# Altium integrated library ST Logic Counter.IntLib: 206 symbols (part 3 of 4)
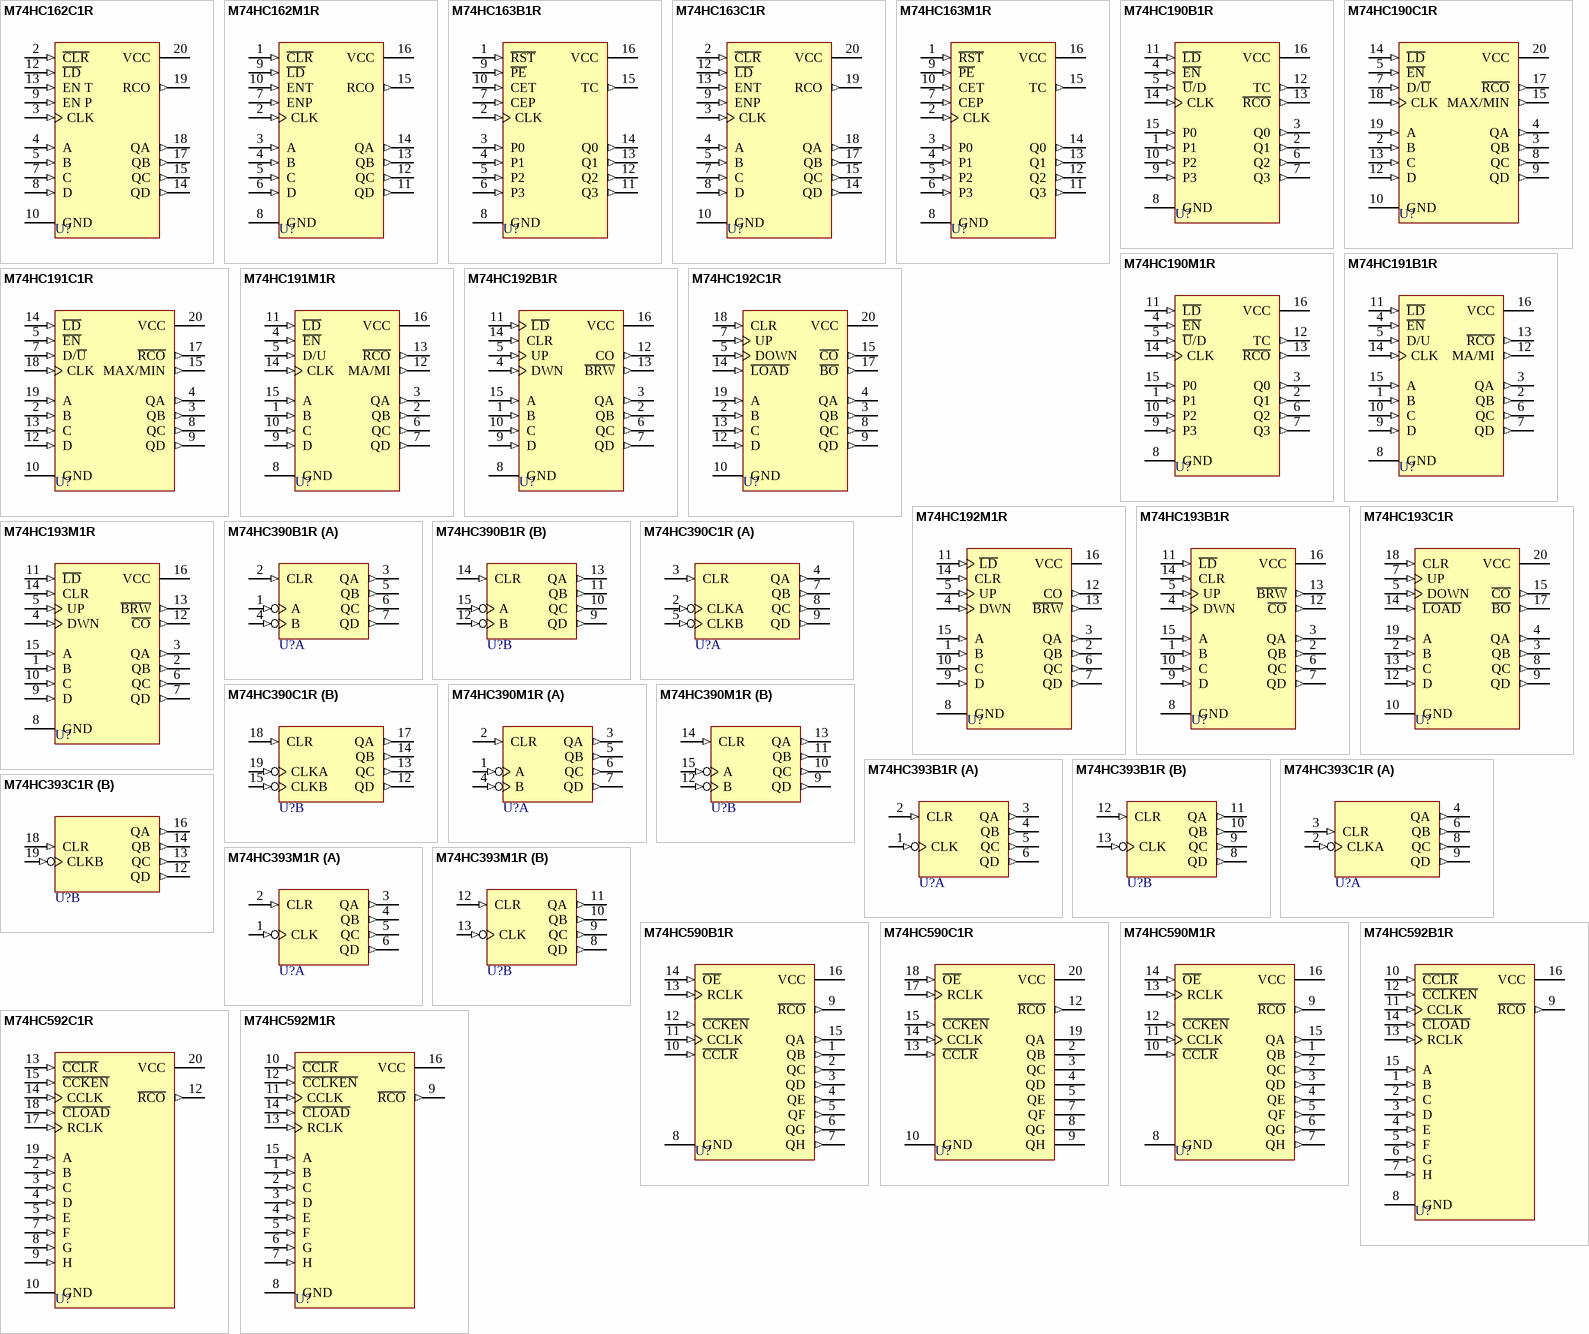
[diagram p8: symbols M74HC162C1R to M74HC592M1R]

## M74HC393M1R
designator U?
Dual Binary Counter; Published: 8-Jun-2000; LatestRevisionDate: 6-Jun-2005; LatestRevisionNote: Stylized 3D Model Added.; DatasheetDocument: Feb-1993; PackageDocument: Sep-1998; PackageReference: SO14; Publisher: Altium Limited; ComponentLink1Description: Manufacturer Link; ComponentLink1URL: http://www.st.com/; ComponentLink2Description: Datasheet; ComponentLink2URL: http://www.st.com/stonline/products/literature/ds/1956/m74hc393.pdf
footprint SO14 (Small Outline; 14 Leads; Body Width 3.9 mm; Pitch 1.27 mm)
3D model SO14 (Small Outline; 14 Leads; Body Width 3.9 mm; Pitch 1.27 mm)
signal-integrity model M74HC393M1R
pins on every part: 7 GND (power) hidden to GND, 14 VDD (power) hidden to VDD
part A pins: 1 CLK (in), 2 CLR (in), 3 QA (out), 4 QB (out), 5 QC (out), 6 QD (out)
part B pins: 8 QD (out), 9 QC (out), 10 QB (out), 11 QA (out), 12 CLR (in), 13 CLK (in)

## M74HC590B1R
designator U?
8-Bit Binary Counter Register (3-State); Published: 8-Jun-2000; LatestRevisionDate: 6-Jun-2005; LatestRevisionNote: Stylized 3D Model Added.; DatasheetDocument: Mar-1993; PackageDocument: Apr-1996; PackageReference: DIP16; Publisher: Altium Limited; ComponentLink1Description: Manufacturer Link; ComponentLink1URL: http://www.st.com/; ComponentLink2Description: Datasheet; ComponentLink2URL: http://www.st.com/stonline/products/literature/ds/1986/m74hc590.pdf
footprint DIP16 (DIP; 16 Leads; Row Spacing 7.62 mm; Pitch 2.54 mm)
3D model DIP16 (DIP; 16 Leads; Row Spacing 7.62 mm; Pitch 2.54 mm)
signal-integrity model M74HC590B1R
pins: 1 QB (out), 2 QC (out), 3 QD (out), 4 QE (out), 5 QF (out), 6 QG (out), 7 QH (out), 8 GND (power), 9 ~{RCO} (out), 10 ~{CCLR} (in), 11 CCLK (in), 12 ~{CCKEN} (in), 13 RCLK (in), 14 ~{OE} (in), 15 QA (out), 16 VCC (power)

## M74HC590C1R
designator U?
8-Bit Binary Counter Register (3-State); Note: Pins 1, 6, 11 and 16 are not connected and not drawn.; Published: 8-Jun-2000; LatestRevisionDate: 6-Jun-2005; LatestRevisionNote: Stylized 3D Model Added.; DatasheetDocument: Mar-1993; PackageDocument: Mar-1992; PackageReference: PLCC20; Publisher: Altium Limited; ComponentLink1Description: Manufacturer Link; ComponentLink1URL: http://www.st.com/
footprint PLCC20 (Leaded Chip Carrier; 20 Leads; Body 9 x 9 mm)
3D model M74HC590-PLCC20 (Leaded Chip Carrier; 20 Leads; Body 9 x 9 mm)
signal-integrity model M74HC590C1R
pins: 2 QB (hiz), 3 QC (hiz), 4 QD (hiz), 5 QE (hiz), 7 QF (hiz), 8 QG (hiz), 9 QH (hiz), 10 GND (power), 12 ~{RCO} (out), 13 ~{CCLR} (in), 14 CCLK (in), 15 ~{CCKEN} (in), 17 RCLK (in), 18 ~{OE} (in), 19 QA (hiz), 20 VCC (power)

## M74HC590M1R
designator U?
8-Bit Binary Counter Register (3-State); Published: 8-Jun-2000; LatestRevisionDate: 6-Jun-2005; LatestRevisionNote: Stylized 3D Model Added.; DatasheetDocument: Mar-1993; PackageDocument: May-1998; PackageReference: SO16; Publisher: Altium Limited; ComponentLink1Description: Manufacturer Link; ComponentLink1URL: http://www.st.com/; ComponentLink2Description: Datasheet; ComponentLink2URL: http://www.st.com/stonline/products/literature/ds/1986/m74hc590.pdf
footprint SO16 (Small Outline; 16 Leads; Body Width 3.9 mm; Pitch 1.27 mm)
3D model SO16 (Small Outline; 16 Leads; Body Width 3.9 mm; Pitch 1.27 mm)
signal-integrity model M74HC590M1R
pins: 1 QB (out), 2 QC (out), 3 QD (out), 4 QE (out), 5 QF (out), 6 QG (out), 7 QH (out), 8 GND (power), 9 ~{RCO} (out), 10 ~{CCLR} (in), 11 CCLK (in), 12 ~{CCKEN} (in), 13 RCLK (in), 14 ~{OE} (in), 15 QA (out), 16 VCC (power)

## M74HC592B1R
designator U?
8-Bit Register Binary Counter; Published: 8-Jun-2000; LatestRevisionDate: 6-Jun-2005; LatestRevisionNote: Stylized 3D Model Added.; DatasheetDocument: Oct-1993; PackageDocument: Apr-1996; PackageReference: DIP16; Publisher: Altium Limited; ComponentLink1Description: Manufacturer Link; ComponentLink1URL: http://www.st.com/; ComponentLink2Description: Datasheet; ComponentLink2URL: http://www.st.com/stonline/products/literature/ds/1987/m74hc592.pdf
footprint DIP16 (DIP; 16 Leads; Row Spacing 7.62 mm; Pitch 2.54 mm)
3D model DIP16 (DIP; 16 Leads; Row Spacing 7.62 mm; Pitch 2.54 mm)
signal-integrity model M74HC592B1R
pins: 1 B (in), 2 C (in), 3 D (in), 4 E (in), 5 F (in), 6 G (in), 7 H (in), 8 GND (power), 9 ~{RCO} (out), 10 ~{CCLR} (in), 11 CCLK (in), 12 ~{CCLKEN} (in), 13 RCLK (in), 14 ~{CLOAD} (in), 15 A (in), 16 VCC (power)

## M74HC592C1R
designator U?
8-Bit Register Binary Counter; Note: Pins 1, 6, 11 and 16 are not connected and not drawn.; Published: 8-Jun-2000; LatestRevisionDate: 6-Jun-2005; LatestRevisionNote: Stylized 3D Model Added.; DatasheetDocument: Oct-1993; PackageDocument: Mar-1992; PackageReference: PLCC20; Publisher: Altium Limited; ComponentLink1Description: Manufacturer Link; ComponentLink1URL: http://www.st.com/
footprint PLCC20 (Leaded Chip Carrier; 20 Leads; Body 9 x 9 mm)
3D model M74HC592-PLCC20 (Leaded Chip Carrier; 20 Leads; Body 9 x 9 mm)
signal-integrity model M74HC592C1R
pins: 2 B (in), 3 C (in), 4 D (in), 5 E (in), 7 F (in), 8 G (in), 9 H (in), 10 GND (power), 12 ~{RCO} (out), 13 ~{CCLR} (in), 14 CCLK (in), 15 ~{CCKEN} (in), 17 RCLK (in), 18 ~{CLOAD} (in), 19 A (in), 20 VCC (power)

## M74HC592M1R
designator U?
8-Bit Register Binary Counter; Published: 8-Jun-2000; LatestRevisionDate: 6-Jun-2005; LatestRevisionNote: Stylized 3D Model Added.; DatasheetDocument: Oct-1993; PackageDocument: May-1998; PackageReference: SO16; Publisher: Altium Limited; ComponentLink1Description: Manufacturer Link; ComponentLink1URL: http://www.st.com/; ComponentLink2Description: Datasheet; ComponentLink2URL: http://www.st.com/stonline/products/literature/ds/1987/m74hc592.pdf
footprint SO16 (Small Outline; 16 Leads; Body Width 3.9 mm; Pitch 1.27 mm)
3D model SO16 (Small Outline; 16 Leads; Body Width 3.9 mm; Pitch 1.27 mm)
signal-integrity model M74HC592M1R
pins: 1 B (in), 2 C (in), 3 D (in), 4 E (in), 5 F (in), 6 G (in), 7 H (in), 8 GND (power), 9 ~{RCO} (out), 10 ~{CCLR} (in), 11 CCLK (in), 12 ~{CCLKEN} (in), 13 RCLK (in), 14 ~{CLOAD} (in), 15 A (in), 16 VCC (power)

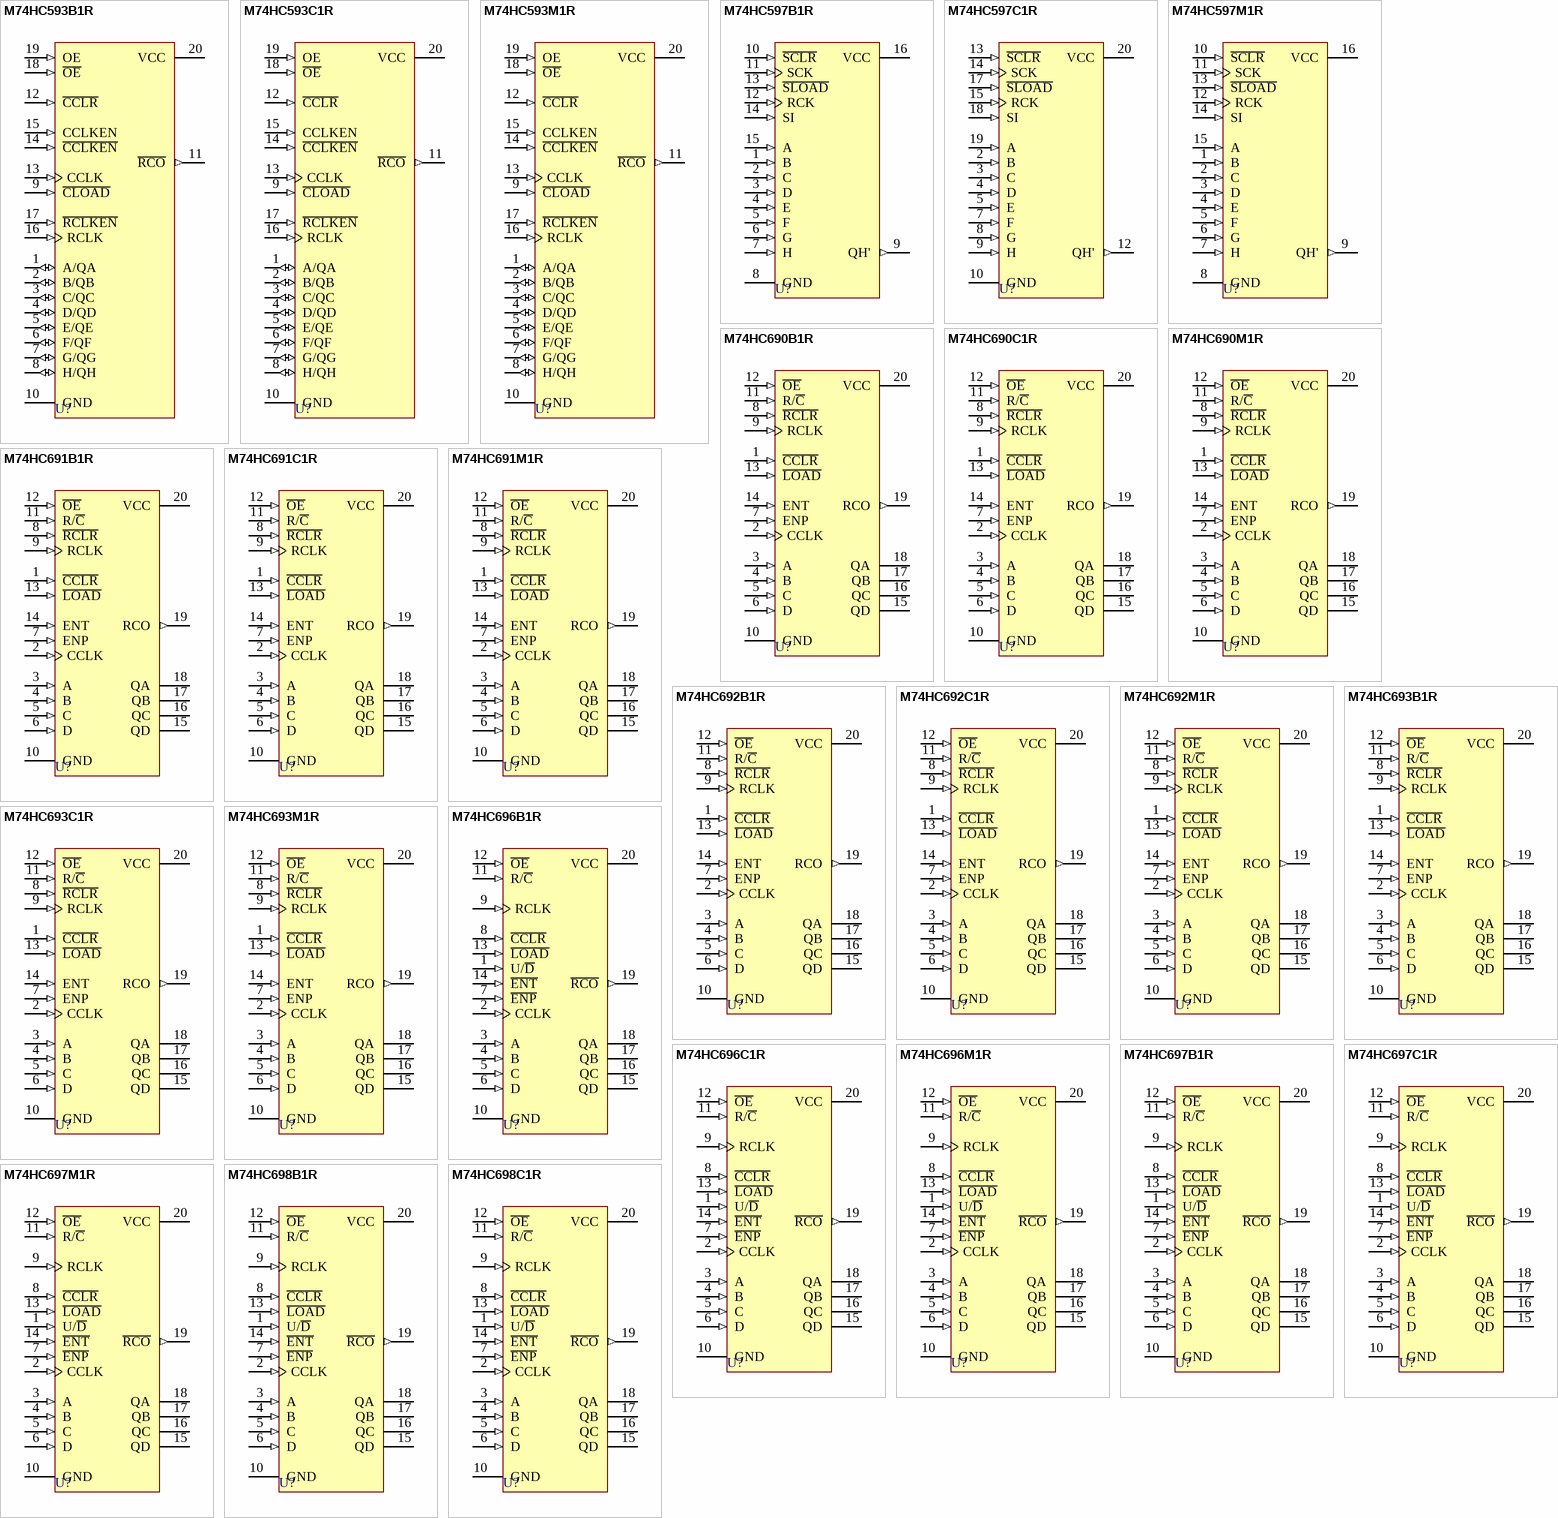
[diagram p4: symbols M74HC593B1R to M74HC698C1R]

## M74HC593B1R
designator U?
8-Bit Binary Counter with Input Register (3-State); Published: 8-Jun-2000; LatestRevisionDate: 6-Jun-2005; LatestRevisionNote: Stylized 3D Model Added.; DatasheetDocument: Oct-1993; PackageDocument: Jun-1998; PackageReference: DIP20; Publisher: Altium Limited; Code_JEDEC: MS-015-AE; ComponentLink1Description: Manufacturer Link; ComponentLink1URL: http://www.st.com/
footprint DIP20 (DIP; 20 Leads; Row Spacing 7.62 mm; Pitch 2.54 mm)
3D model DIP20 (DIP; 20 Leads; Row Spacing 7.62 mm; Pitch 2.54 mm)
signal-integrity model M74HC593B1R
pins: 1 A/QA (io), 2 B/QB (io), 3 C/QC (io), 4 D/QD (io), 5 E/QE (io), 6 F/QF (io), 7 G/QG (io), 8 H/QH (io), 9 ~{CLOAD} (in), 10 GND (power), 11 ~{RCO} (out), 12 ~{CCLR} (in), 13 CCLK (in), 14 ~{CCLKEN} (in), 15 CCLKEN (in), 16 RCLK (in), 17 ~{RCLKEN} (in), 18 ~{OE} (in), 19 OE (in), 20 VCC (power)

## M74HC593C1R
designator U?
8-Bit Binary Counter with Input Register (3-State); Published: 8-Jun-2000; LatestRevisionDate: 6-Jun-2005; LatestRevisionNote: Stylized 3D Model Added.; DatasheetDocument: Oct-1993; PackageDocument: Mar-1992; PackageReference: PLCC20; Publisher: Altium Limited; ComponentLink1Description: Manufacturer Link; ComponentLink1URL: http://www.st.com/
footprint PLCC20 (Leaded Chip Carrier; 20 Leads; Body 9 x 9 mm)
3D model M74HC593-PLCC20 (Leaded Chip Carrier; 20 Leads; Body 9 x 9 mm)
signal-integrity model M74HC593C1R
pins: 1 A/QA (io), 2 B/QB (io), 3 C/QC (io), 4 D/QD (io), 5 E/QE (io), 6 F/QF (io), 7 G/QG (io), 8 H/QH (io), 9 ~{CLOAD} (in), 10 GND (power), 11 ~{RCO} (out), 12 ~{CCLR} (in), 13 CCLK (in), 14 ~{CCLKEN} (in), 15 CCLKEN (in), 16 RCLK (in), 17 ~{RCLKEN} (in), 18 ~{OE} (in), 19 OE (in), 20 VCC (power)

## M74HC593M1R
designator U?
8-Bit Binary Counter with Input Register (3-State); Published: 8-Jun-2000; LatestRevisionDate: 6-Jun-2005; LatestRevisionNote: Stylized 3D Model Added.; DatasheetDocument: Oct-1993; PackageDocument: Jul-2001; PackageReference: SO20; Publisher: Altium Limited; Code_JEDEC: MS-013-AC; Code_IPC: SO20W; ComponentLink1Description: Manufacturer Link; ComponentLink1URL: http://www.st.com/
footprint SO20 (Small Outline, Plastic; 20 Leads; Body Width 7.5 mm; Pitch 1.27 mm)
3D model SO20 (Small Outline, Plastic; 20 Leads; Body Width 7.5 mm; Pitch 1.27 mm)
signal-integrity model M74HC593M1R
pins: 1 A/QA (io), 2 B/QB (io), 3 C/QC (io), 4 D/QD (io), 5 E/QE (io), 6 F/QF (io), 7 G/QG (io), 8 H/QH (io), 9 ~{CLOAD} (in), 10 GND (power), 11 ~{RCO} (out), 12 ~{CCLR} (in), 13 CCLK (in), 14 ~{CCLKEN} (in), 15 CCLKEN (in), 16 RCLK (in), 17 ~{RCLKEN} (in), 18 ~{OE} (in), 19 OE (in), 20 VCC (power)

## M74HC597B1R
designator U?
8-Bit Latch/Shift Register; Published: 8-Jun-2000; LatestRevisionDate: 6-Jun-2005; LatestRevisionNote: Stylized 3D Model Added.; DatasheetDocument: Oct-1992; PackageDocument: Apr-1996; PackageReference: DIP16; Publisher: Altium Limited; ComponentLink1Description: Manufacturer Link; ComponentLink1URL: http://www.st.com/; ComponentLink2Description: Datasheet; ComponentLink2URL: http://www.st.com/stonline/products/literature/ds/1990/m74hc597.pdf
footprint DIP16 (DIP; 16 Leads; Row Spacing 7.62 mm; Pitch 2.54 mm)
3D model DIP16 (DIP; 16 Leads; Row Spacing 7.62 mm; Pitch 2.54 mm)
signal-integrity model M74HC597B1R
pins: 1 B (in), 2 C (in), 3 D (in), 4 E (in), 5 F (in), 6 G (in), 7 H (in), 8 GND (power), 9 QH' (out), 10 ~{SCLR} (in), 11 SCK (in), 12 RCK (in), 13 ~{SLOAD} (in), 14 SI (in), 15 A (in), 16 VCC (power)

## M74HC597C1R
designator U?
8-Bit Latch/Shift Register; Note: Pins 1, 6, 11 and 16 are not connected and not drawn.; Published: 8-Jun-2000; LatestRevisionDate: 6-Jun-2005; LatestRevisionNote: Stylized 3D Model Added.; DatasheetDocument: Oct-1992; PackageDocument: Mar-1992; PackageReference: PLCC20; Publisher: Altium Limited; ComponentLink1Description: Manufacturer Link; ComponentLink1URL: http://www.st.com/
footprint PLCC20 (Leaded Chip Carrier; 20 Leads; Body 9 x 9 mm)
3D model M74HC597-PLCC20 (Leaded Chip Carrier; 20 Leads; Body 9 x 9 mm)
signal-integrity model M74HC597C1R
pins: 2 B (in), 3 C (in), 4 D (in), 5 E (in), 7 F (in), 8 G (in), 9 H (in), 10 GND (power), 12 QH' (out), 13 ~{SCLR} (in), 14 SCK (in), 15 RCK (in), 17 ~{SLOAD} (in), 18 SI (in), 19 A (in), 20 VCC (power)

## M74HC597M1R
designator U?
8-Bit Latch/Shift Register; Published: 8-Jun-2000; LatestRevisionDate: 6-Jun-2005; LatestRevisionNote: Stylized 3D Model Added.; DatasheetDocument: Oct-1992; PackageDocument: May-1998; PackageReference: SO16; Publisher: Altium Limited; ComponentLink1Description: Manufacturer Link; ComponentLink1URL: http://www.st.com/; ComponentLink2Description: Datasheet; ComponentLink2URL: http://www.st.com/stonline/products/literature/ds/1990/m74hc597.pdf
footprint SO16 (Small Outline; 16 Leads; Body Width 3.9 mm; Pitch 1.27 mm)
3D model SO16 (Small Outline; 16 Leads; Body Width 3.9 mm; Pitch 1.27 mm)
signal-integrity model M74HC597M1R
pins: 1 B (in), 2 C (in), 3 D (in), 4 E (in), 5 F (in), 6 G (in), 7 H (in), 8 GND (power), 9 QH' (out), 10 ~{SCLR} (in), 11 SCK (in), 12 RCK (in), 13 ~{SLOAD} (in), 14 SI (in), 15 A (in), 16 VCC (power)

## M74HC690B1R
designator U?
Decade Counter/Register (3-State); Published: 8-Jun-2000; LatestRevisionDate: 6-Jun-2005; LatestRevisionNote: Stylized 3D Model Added.; DatasheetDocument: Mar-1993; PackageDocument: Jun-1998; PackageReference: DIP20; Publisher: Altium Limited; Code_JEDEC: MS-015-AE; ComponentLink1Description: Manufacturer Link; ComponentLink1URL: http://www.st.com/
footprint DIP20 (DIP; 20 Leads; Row Spacing 7.62 mm; Pitch 2.54 mm)
3D model DIP20 (DIP; 20 Leads; Row Spacing 7.62 mm; Pitch 2.54 mm)
signal-integrity model M74HC690B1R
pins: 1 ~{CCLR} (in), 2 CCLK (in), 3 A (in), 4 B (in), 5 C (in), 6 D (in), 7 ENP (in), 8 ~{RCLR} (in), 9 RCLK (in), 10 GND (power), 11 R/~{C} (in), 12 ~{OE} (in), 13 ~{LOAD} (in), 14 ENT (in), 15 QD (hiz), 16 QC (hiz), 17 QB (hiz), 18 QA (hiz), 19 RCO (out), 20 VCC (power)

## M74HC690C1R
designator U?
Decade Counter/Register (3-State); Published: 8-Jun-2000; LatestRevisionDate: 6-Jun-2005; LatestRevisionNote: Stylized 3D Model Added.; DatasheetDocument: Mar-1993; PackageDocument: Mar-1992; PackageReference: PLCC20; Publisher: Altium Limited; ComponentLink1Description: Manufacturer Link; ComponentLink1URL: http://www.st.com/
footprint PLCC20 (Leaded Chip Carrier; 20 Leads; Body 9 x 9 mm)
3D model M74HC690-PLCC20 (Leaded Chip Carrier; 20 Leads; Body 9 x 9 mm)
signal-integrity model M74HC690C1R
pins: 1 ~{CCLR} (in), 2 CCLK (in), 3 A (in), 4 B (in), 5 C (in), 6 D (in), 7 ENP (in), 8 ~{RCLR} (in), 9 RCLK (in), 10 GND (power), 11 R/~{C} (in), 12 ~{OE} (in), 13 ~{LOAD} (in), 14 ENT (in), 15 QD (hiz), 16 QC (hiz), 17 QB (hiz), 18 QA (hiz), 19 RCO (out), 20 VCC (power)

## M74HC690M1R
designator U?
Decade Binary Counter/Register (3-State); Published: 8-Jun-2000; LatestRevisionDate: 6-Jun-2005; LatestRevisionNote: Stylized 3D Model Added.; DatasheetDocument: Mar-1993; PackageDocument: Jul-2001; PackageReference: SO20; Publisher: Altium Limited; Code_JEDEC: MS-013-AC; Code_IPC: SO20W; ComponentLink1Description: Manufacturer Link; ComponentLink1URL: http://www.st.com/
footprint SO20 (Small Outline, Plastic; 20 Leads; Body Width 7.5 mm; Pitch 1.27 mm)
3D model SO20 (Small Outline, Plastic; 20 Leads; Body Width 7.5 mm; Pitch 1.27 mm)
signal-integrity model M74HC690M1R
pins: 1 ~{CCLR} (in), 2 CCLK (in), 3 A (in), 4 B (in), 5 C (in), 6 D (in), 7 ENP (in), 8 ~{RCLR} (in), 9 RCLK (in), 10 GND (power), 11 R/~{C} (in), 12 ~{OE} (in), 13 ~{LOAD} (in), 14 ENT (in), 15 QD (hiz), 16 QC (hiz), 17 QB (hiz), 18 QA (hiz), 19 RCO (out), 20 VCC (power)

## M74HC691B1R
designator U?
4-Bit Binary Counter/Register (3-State); Published: 8-Jun-2000; LatestRevisionDate: 6-Jun-2005; LatestRevisionNote: Stylized 3D Model Added.; DatasheetDocument: Mar-1993; PackageDocument: Jun-1998; PackageReference: DIP20; Publisher: Altium Limited; Code_JEDEC: MS-015-AE; ComponentLink1Description: Manufacturer Link; ComponentLink1URL: http://www.st.com/
footprint DIP20 (DIP; 20 Leads; Row Spacing 7.62 mm; Pitch 2.54 mm)
3D model DIP20 (DIP; 20 Leads; Row Spacing 7.62 mm; Pitch 2.54 mm)
signal-integrity model M74HC691B1R
pins: 1 ~{CCLR} (in), 2 CCLK (in), 3 A (in), 4 B (in), 5 C (in), 6 D (in), 7 ENP (in), 8 ~{RCLR} (in), 9 RCLK (in), 10 GND (power), 11 R/~{C} (in), 12 ~{OE} (in), 13 ~{LOAD} (in), 14 ENT (in), 15 QD (hiz), 16 QC (hiz), 17 QB (hiz), 18 QA (hiz), 19 RCO (out), 20 VCC (power)

## M74HC691C1R
designator U?
4-Bit Binary Counter/Register (3-State); Published: 8-Jun-2000; LatestRevisionDate: 6-Jun-2005; LatestRevisionNote: Stylized 3D Model Added.; DatasheetDocument: Mar-1993; PackageDocument: Mar-1992; PackageReference: PLCC20; Publisher: Altium Limited; ComponentLink1Description: Manufacturer Link; ComponentLink1URL: http://www.st.com/
footprint PLCC20 (Leaded Chip Carrier; 20 Leads; Body 9 x 9 mm)
3D model M74HC691-PLCC20 (Leaded Chip Carrier; 20 Leads; Body 9 x 9 mm)
signal-integrity model M74HC691C1R
pins: 1 ~{CCLR} (in), 2 CCLK (in), 3 A (in), 4 B (in), 5 C (in), 6 D (in), 7 ENP (in), 8 ~{RCLR} (in), 9 RCLK (in), 10 GND (power), 11 R/~{C} (in), 12 ~{OE} (in), 13 ~{LOAD} (in), 14 ENT (in), 15 QD (hiz), 16 QC (hiz), 17 QB (hiz), 18 QA (hiz), 19 RCO (out), 20 VCC (power)

## M74HC691M1R
designator U?
4-Bit Binary Counter/Register (3-State); Published: 8-Jun-2000; LatestRevisionDate: 6-Jun-2005; LatestRevisionNote: Stylized 3D Model Added.; DatasheetDocument: Mar-1993; PackageDocument: Jul-2001; PackageReference: SO20; Publisher: Altium Limited; Code_JEDEC: MS-013-AC; Code_IPC: SO20W; ComponentLink1Description: Manufacturer Link; ComponentLink1URL: http://www.st.com/
footprint SO20 (Small Outline, Plastic; 20 Leads; Body Width 7.5 mm; Pitch 1.27 mm)
3D model SO20 (Small Outline, Plastic; 20 Leads; Body Width 7.5 mm; Pitch 1.27 mm)
signal-integrity model M74HC691M1R
pins: 1 ~{CCLR} (in), 2 CCLK (in), 3 A (in), 4 B (in), 5 C (in), 6 D (in), 7 ENP (in), 8 ~{RCLR} (in), 9 RCLK (in), 10 GND (power), 11 R/~{C} (in), 12 ~{OE} (in), 13 ~{LOAD} (in), 14 ENT (in), 15 QD (hiz), 16 QC (hiz), 17 QB (hiz), 18 QA (hiz), 19 RCO (out), 20 VCC (power)

## M74HC692B1R
designator U?
Decade Counter/Register (3-State); Published: 8-Jun-2000; LatestRevisionDate: 6-Jun-2005; LatestRevisionNote: Stylized 3D Model Added.; DatasheetDocument: Mar-1993; PackageDocument: Jun-1998; PackageReference: DIP20; Publisher: Altium Limited; Code_JEDEC: MS-015-AE; ComponentLink1Description: Manufacturer Link; ComponentLink1URL: http://www.st.com/
footprint DIP20 (DIP; 20 Leads; Row Spacing 7.62 mm; Pitch 2.54 mm)
3D model DIP20 (DIP; 20 Leads; Row Spacing 7.62 mm; Pitch 2.54 mm)
signal-integrity model M74HC692B1R
pins: 1 ~{CCLR} (in), 2 CCLK (in), 3 A (in), 4 B (in), 5 C (in), 6 D (in), 7 ENP (in), 8 ~{RCLR} (in), 9 RCLK (in), 10 GND (power), 11 R/~{C} (in), 12 ~{OE} (in), 13 ~{LOAD} (in), 14 ENT (in), 15 QD (hiz), 16 QC (hiz), 17 QB (hiz), 18 QA (hiz), 19 RCO (out), 20 VCC (power)

## M74HC692C1R
designator U?
Decade Counter/Register (3-State); Published: 8-Jun-2000; LatestRevisionDate: 6-Jun-2005; LatestRevisionNote: Stylized 3D Model Added.; DatasheetDocument: Mar-1993; PackageDocument: Mar-1992; PackageReference: PLCC20; Publisher: Altium Limited; ComponentLink1Description: Manufacturer Link; ComponentLink1URL: http://www.st.com/
footprint PLCC20 (Leaded Chip Carrier; 20 Leads; Body 9 x 9 mm)
3D model M74HC692-PLCC20 (Leaded Chip Carrier; 20 Leads; Body 9 x 9 mm)
signal-integrity model M74HC692C1R
pins: 1 ~{CCLR} (in), 2 CCLK (in), 3 A (in), 4 B (in), 5 C (in), 6 D (in), 7 ENP (in), 8 ~{RCLR} (in), 9 RCLK (in), 10 GND (power), 11 R/~{C} (in), 12 ~{OE} (in), 13 ~{LOAD} (in), 14 ENT (in), 15 QD (hiz), 16 QC (hiz), 17 QB (hiz), 18 QA (hiz), 19 RCO (out), 20 VCC (power)

## M74HC692M1R
designator U?
Decade Binary Counter/Register (3-State); Published: 8-Jun-2000; LatestRevisionDate: 6-Jun-2005; LatestRevisionNote: Stylized 3D Model Added.; DatasheetDocument: Mar-1993; PackageDocument: Jul-2001; PackageReference: SO20; Publisher: Altium Limited; Code_JEDEC: MS-013-AC; Code_IPC: SO20W; ComponentLink1Description: Manufacturer Link; ComponentLink1URL: http://www.st.com/
footprint SO20 (Small Outline, Plastic; 20 Leads; Body Width 7.5 mm; Pitch 1.27 mm)
3D model SO20 (Small Outline, Plastic; 20 Leads; Body Width 7.5 mm; Pitch 1.27 mm)
signal-integrity model M74HC692M1R
pins: 1 ~{CCLR} (in), 2 CCLK (in), 3 A (in), 4 B (in), 5 C (in), 6 D (in), 7 ENP (in), 8 ~{RCLR} (in), 9 RCLK (in), 10 GND (power), 11 R/~{C} (in), 12 ~{OE} (in), 13 ~{LOAD} (in), 14 ENT (in), 15 QD (hiz), 16 QC (hiz), 17 QB (hiz), 18 QA (hiz), 19 RCO (out), 20 VCC (power)

## M74HC693B1R
designator U?
4-Bit Binary Counter/Register (3-State); Published: 8-Jun-2000; LatestRevisionDate: 6-Jun-2005; LatestRevisionNote: Stylized 3D Model Added.; DatasheetDocument: Mar-1993; PackageDocument: Jun-1998; PackageReference: DIP20; Publisher: Altium Limited; Code_JEDEC: MS-015-AE; ComponentLink1Description: Manufacturer Link; ComponentLink1URL: http://www.st.com/
footprint DIP20 (DIP; 20 Leads; Row Spacing 7.62 mm; Pitch 2.54 mm)
3D model DIP20 (DIP; 20 Leads; Row Spacing 7.62 mm; Pitch 2.54 mm)
signal-integrity model M74HC693B1R
pins: 1 ~{CCLR} (in), 2 CCLK (in), 3 A (in), 4 B (in), 5 C (in), 6 D (in), 7 ENP (in), 8 ~{RCLR} (in), 9 RCLK (in), 10 GND (power), 11 R/~{C} (in), 12 ~{OE} (in), 13 ~{LOAD} (in), 14 ENT (in), 15 QD (hiz), 16 QC (hiz), 17 QB (hiz), 18 QA (hiz), 19 RCO (out), 20 VCC (power)

## M74HC693C1R
designator U?
4-Bit Binary Counter/Register (3-State); Published: 8-Jun-2000; LatestRevisionDate: 6-Jun-2005; LatestRevisionNote: Stylized 3D Model Added.; DatasheetDocument: Mar-1993; PackageDocument: Mar-1992; PackageReference: PLCC20; Publisher: Altium Limited; ComponentLink1Description: Manufacturer Link; ComponentLink1URL: http://www.st.com/
footprint PLCC20 (Leaded Chip Carrier; 20 Leads; Body 9 x 9 mm)
3D model M74HC693-PLCC20 (Leaded Chip Carrier; 20 Leads; Body 9 x 9 mm)
signal-integrity model M74HC693C1R
pins: 1 ~{CCLR} (in), 2 CCLK (in), 3 A (in), 4 B (in), 5 C (in), 6 D (in), 7 ENP (in), 8 ~{RCLR} (in), 9 RCLK (in), 10 GND (power), 11 R/~{C} (in), 12 ~{OE} (in), 13 ~{LOAD} (in), 14 ENT (in), 15 QD (hiz), 16 QC (hiz), 17 QB (hiz), 18 QA (hiz), 19 RCO (out), 20 VCC (power)

## M74HC693M1R
designator U?
4-Bit Binary Counter/Register (3-State); Published: 8-Jun-2000; LatestRevisionDate: 6-Jun-2005; LatestRevisionNote: Stylized 3D Model Added.; DatasheetDocument: Mar-1993; PackageDocument: Jul-2001; PackageReference: SO20; Publisher: Altium Limited; Code_JEDEC: MS-013-AC; Code_IPC: SO20W; ComponentLink1Description: Manufacturer Link; ComponentLink1URL: http://www.st.com/
footprint SO20 (Small Outline, Plastic; 20 Leads; Body Width 7.5 mm; Pitch 1.27 mm)
3D model SO20 (Small Outline, Plastic; 20 Leads; Body Width 7.5 mm; Pitch 1.27 mm)
signal-integrity model M74HC693M1R
pins: 1 ~{CCLR} (in), 2 CCLK (in), 3 A (in), 4 B (in), 5 C (in), 6 D (in), 7 ENP (in), 8 ~{RCLR} (in), 9 RCLK (in), 10 GND (power), 11 R/~{C} (in), 12 ~{OE} (in), 13 ~{LOAD} (in), 14 ENT (in), 15 QD (hiz), 16 QC (hiz), 17 QB (hiz), 18 QA (hiz), 19 RCO (out), 20 VCC (power)

## M74HC696B1R
designator U?
U/D Decade Counter/Register (3-State); Published: 8-Jun-2000; LatestRevisionDate: 6-Jun-2005; LatestRevisionNote: Stylized 3D Model Added.; DatasheetDocument: Mar-1993; PackageDocument: Jun-1998; PackageReference: DIP20; Publisher: Altium Limited; Code_JEDEC: MS-015-AE; ComponentLink1Description: Manufacturer Link; ComponentLink1URL: http://www.st.com/
footprint DIP20 (DIP; 20 Leads; Row Spacing 7.62 mm; Pitch 2.54 mm)
3D model DIP20 (DIP; 20 Leads; Row Spacing 7.62 mm; Pitch 2.54 mm)
signal-integrity model M74HC696B1R
pins: 1 U/~{D} (in), 2 CCLK (in), 3 A (in), 4 B (in), 5 C (in), 6 D (in), 7 ~{ENP} (in), 8 ~{CCLR} (in), 9 RCLK (in), 10 GND (power), 11 R/~{C} (in), 12 ~{OE} (in), 13 ~{LOAD} (in), 14 ~{ENT} (in), 15 QD (hiz), 16 QC (hiz), 17 QB (hiz), 18 QA (hiz), 19 ~{RCO} (out), 20 VCC (power)

## M74HC696C1R
designator U?
U/D Decade Counter/Register (3-State); Published: 8-Jun-2000; LatestRevisionDate: 6-Jun-2005; LatestRevisionNote: Stylized 3D Model Added.; DatasheetDocument: Mar-1993; PackageDocument: Mar-1992; PackageReference: PLCC20; Publisher: Altium Limited; ComponentLink1Description: Manufacturer Link; ComponentLink1URL: http://www.st.com/
footprint PLCC20 (Leaded Chip Carrier; 20 Leads; Body 9 x 9 mm)
3D model M74HC696-PLCC20 (Leaded Chip Carrier; 20 Leads; Body 9 x 9 mm)
signal-integrity model M74HC696C1R
pins: 1 U/~{D} (in), 2 CCLK (in), 3 A (in), 4 B (in), 5 C (in), 6 D (in), 7 ~{ENP} (in), 8 ~{CCLR} (in), 9 RCLK (in), 10 GND (power), 11 R/~{C} (in), 12 ~{OE} (in), 13 ~{LOAD} (in), 14 ~{ENT} (in), 15 QD (hiz), 16 QC (hiz), 17 QB (hiz), 18 QA (hiz), 19 ~{RCO} (out), 20 VCC (power)

## M74HC696M1R
designator U?
U/D Decade Counter/Register (3-State); Published: 8-Jun-2000; LatestRevisionDate: 6-Jun-2005; LatestRevisionNote: Stylized 3D Model Added.; DatasheetDocument: Mar-1993; PackageDocument: Jul-2001; PackageReference: SO20; Publisher: Altium Limited; Code_JEDEC: MS-013-AC; Code_IPC: SO20W; ComponentLink1Description: Manufacturer Link; ComponentLink1URL: http://www.st.com/
footprint SO20 (Small Outline, Plastic; 20 Leads; Body Width 7.5 mm; Pitch 1.27 mm)
3D model SO20 (Small Outline, Plastic; 20 Leads; Body Width 7.5 mm; Pitch 1.27 mm)
signal-integrity model M74HC696M1R
pins: 1 U/~{D} (in), 2 CCLK (in), 3 A (in), 4 B (in), 5 C (in), 6 D (in), 7 ~{ENP} (in), 8 ~{CCLR} (in), 9 RCLK (in), 10 GND (power), 11 R/~{C} (in), 12 ~{OE} (in), 13 ~{LOAD} (in), 14 ~{ENT} (in), 15 QD (hiz), 16 QC (hiz), 17 QB (hiz), 18 QA (hiz), 19 ~{RCO} (out), 20 VCC (power)

## M74HC697B1R
designator U?
U/D 4-Bit Binary Counter/Register (3-State); Published: 8-Jun-2000; LatestRevisionDate: 6-Jun-2005; LatestRevisionNote: Stylized 3D Model Added.; DatasheetDocument: Mar-1993; PackageDocument: Jun-1998; PackageReference: DIP20; Publisher: Altium Limited; Code_JEDEC: MS-015-AE; ComponentLink1Description: Manufacturer Link; ComponentLink1URL: http://www.st.com/
footprint DIP20 (DIP; 20 Leads; Row Spacing 7.62 mm; Pitch 2.54 mm)
3D model DIP20 (DIP; 20 Leads; Row Spacing 7.62 mm; Pitch 2.54 mm)
signal-integrity model M74HC697B1R
pins: 1 U/~{D} (in), 2 CCLK (in), 3 A (in), 4 B (in), 5 C (in), 6 D (in), 7 ~{ENP} (in), 8 ~{CCLR} (in), 9 RCLK (in), 10 GND (power), 11 R/~{C} (in), 12 ~{OE} (in), 13 ~{LOAD} (in), 14 ~{ENT} (in), 15 QD (hiz), 16 QC (hiz), 17 QB (hiz), 18 QA (hiz), 19 ~{RCO} (out), 20 VCC (power)

## M74HC697C1R
designator U?
U/D 4-Bit Binary Counter/Register (3-State); Published: 8-Jun-2000; LatestRevisionDate: 6-Jun-2005; LatestRevisionNote: Stylized 3D Model Added.; DatasheetDocument: Mar-1993; PackageDocument: Mar-1992; PackageReference: PLCC20; Publisher: Altium Limited; ComponentLink1Description: Manufacturer Link; ComponentLink1URL: http://www.st.com/
footprint PLCC20 (Leaded Chip Carrier; 20 Leads; Body 9 x 9 mm)
3D model M74HC697-PLCC20 (Leaded Chip Carrier; 20 Leads; Body 9 x 9 mm)
signal-integrity model M74HC697C1R
pins: 1 U/~{D} (in), 2 CCLK (in), 3 A (in), 4 B (in), 5 C (in), 6 D (in), 7 ~{ENP} (in), 8 ~{CCLR} (in), 9 RCLK (in), 10 GND (power), 11 R/~{C} (in), 12 ~{OE} (in), 13 ~{LOAD} (in), 14 ~{ENT} (in), 15 QD (hiz), 16 QC (hiz), 17 QB (hiz), 18 QA (hiz), 19 ~{RCO} (out), 20 VCC (power)

## M74HC697M1R
designator U?
U/D 4-Bit Binary Counter/Register (3-State); Published: 8-Jun-2000; LatestRevisionDate: 6-Jun-2005; LatestRevisionNote: Stylized 3D Model Added.; DatasheetDocument: Mar-1993; PackageDocument: Jul-2001; PackageReference: SO20; Publisher: Altium Limited; Code_JEDEC: MS-013-AC; Code_IPC: SO20W; ComponentLink1Description: Manufacturer Link; ComponentLink1URL: http://www.st.com/
footprint SO20 (Small Outline, Plastic; 20 Leads; Body Width 7.5 mm; Pitch 1.27 mm)
3D model SO20 (Small Outline, Plastic; 20 Leads; Body Width 7.5 mm; Pitch 1.27 mm)
signal-integrity model M74HC697M1R
pins: 1 U/~{D} (in), 2 CCLK (in), 3 A (in), 4 B (in), 5 C (in), 6 D (in), 7 ~{ENP} (in), 8 ~{CCLR} (in), 9 RCLK (in), 10 GND (power), 11 R/~{C} (in), 12 ~{OE} (in), 13 ~{LOAD} (in), 14 ~{ENT} (in), 15 QD (hiz), 16 QC (hiz), 17 QB (hiz), 18 QA (hiz), 19 ~{RCO} (out), 20 VCC (power)

## M74HC698B1R
designator U?
U/D Decade Counter/Register (3-State); Published: 8-Jun-2000; LatestRevisionDate: 6-Jun-2005; LatestRevisionNote: Stylized 3D Model Added.; DatasheetDocument: Mar-1993; PackageDocument: Jun-1998; PackageReference: DIP20; Publisher: Altium Limited; Code_JEDEC: MS-015-AE; ComponentLink1Description: Manufacturer Link; ComponentLink1URL: http://www.st.com/
footprint DIP20 (DIP; 20 Leads; Row Spacing 7.62 mm; Pitch 2.54 mm)
3D model DIP20 (DIP; 20 Leads; Row Spacing 7.62 mm; Pitch 2.54 mm)
signal-integrity model M74HC698B1R
pins: 1 U/~{D} (in), 2 CCLK (in), 3 A (in), 4 B (in), 5 C (in), 6 D (in), 7 ~{ENP} (in), 8 ~{CCLR} (in), 9 RCLK (in), 10 GND (power), 11 R/~{C} (in), 12 ~{OE} (in), 13 ~{LOAD} (in), 14 ~{ENT} (in), 15 QD (hiz), 16 QC (hiz), 17 QB (hiz), 18 QA (hiz), 19 ~{RCO} (out), 20 VCC (power)

## M74HC698C1R
designator U?
U/D Decade Counter/Register (3-State); Published: 8-Jun-2000; LatestRevisionDate: 6-Jun-2005; LatestRevisionNote: Stylized 3D Model Added.; DatasheetDocument: Mar-1993; PackageDocument: Mar-1992; PackageReference: PLCC20; Publisher: Altium Limited; ComponentLink1Description: Manufacturer Link; ComponentLink1URL: http://www.st.com/
footprint PLCC20 (Leaded Chip Carrier; 20 Leads; Body 9 x 9 mm)
3D model M74HC698-PLCC20 (Leaded Chip Carrier; 20 Leads; Body 9 x 9 mm)
signal-integrity model M74HC698C1R
pins: 1 U/~{D} (in), 2 CCLK (in), 3 A (in), 4 B (in), 5 C (in), 6 D (in), 7 ~{ENP} (in), 8 ~{CCLR} (in), 9 RCLK (in), 10 GND (power), 11 R/~{C} (in), 12 ~{OE} (in), 13 ~{LOAD} (in), 14 ~{ENT} (in), 15 QD (hiz), 16 QC (hiz), 17 QB (hiz), 18 QA (hiz), 19 ~{RCO} (out), 20 VCC (power)

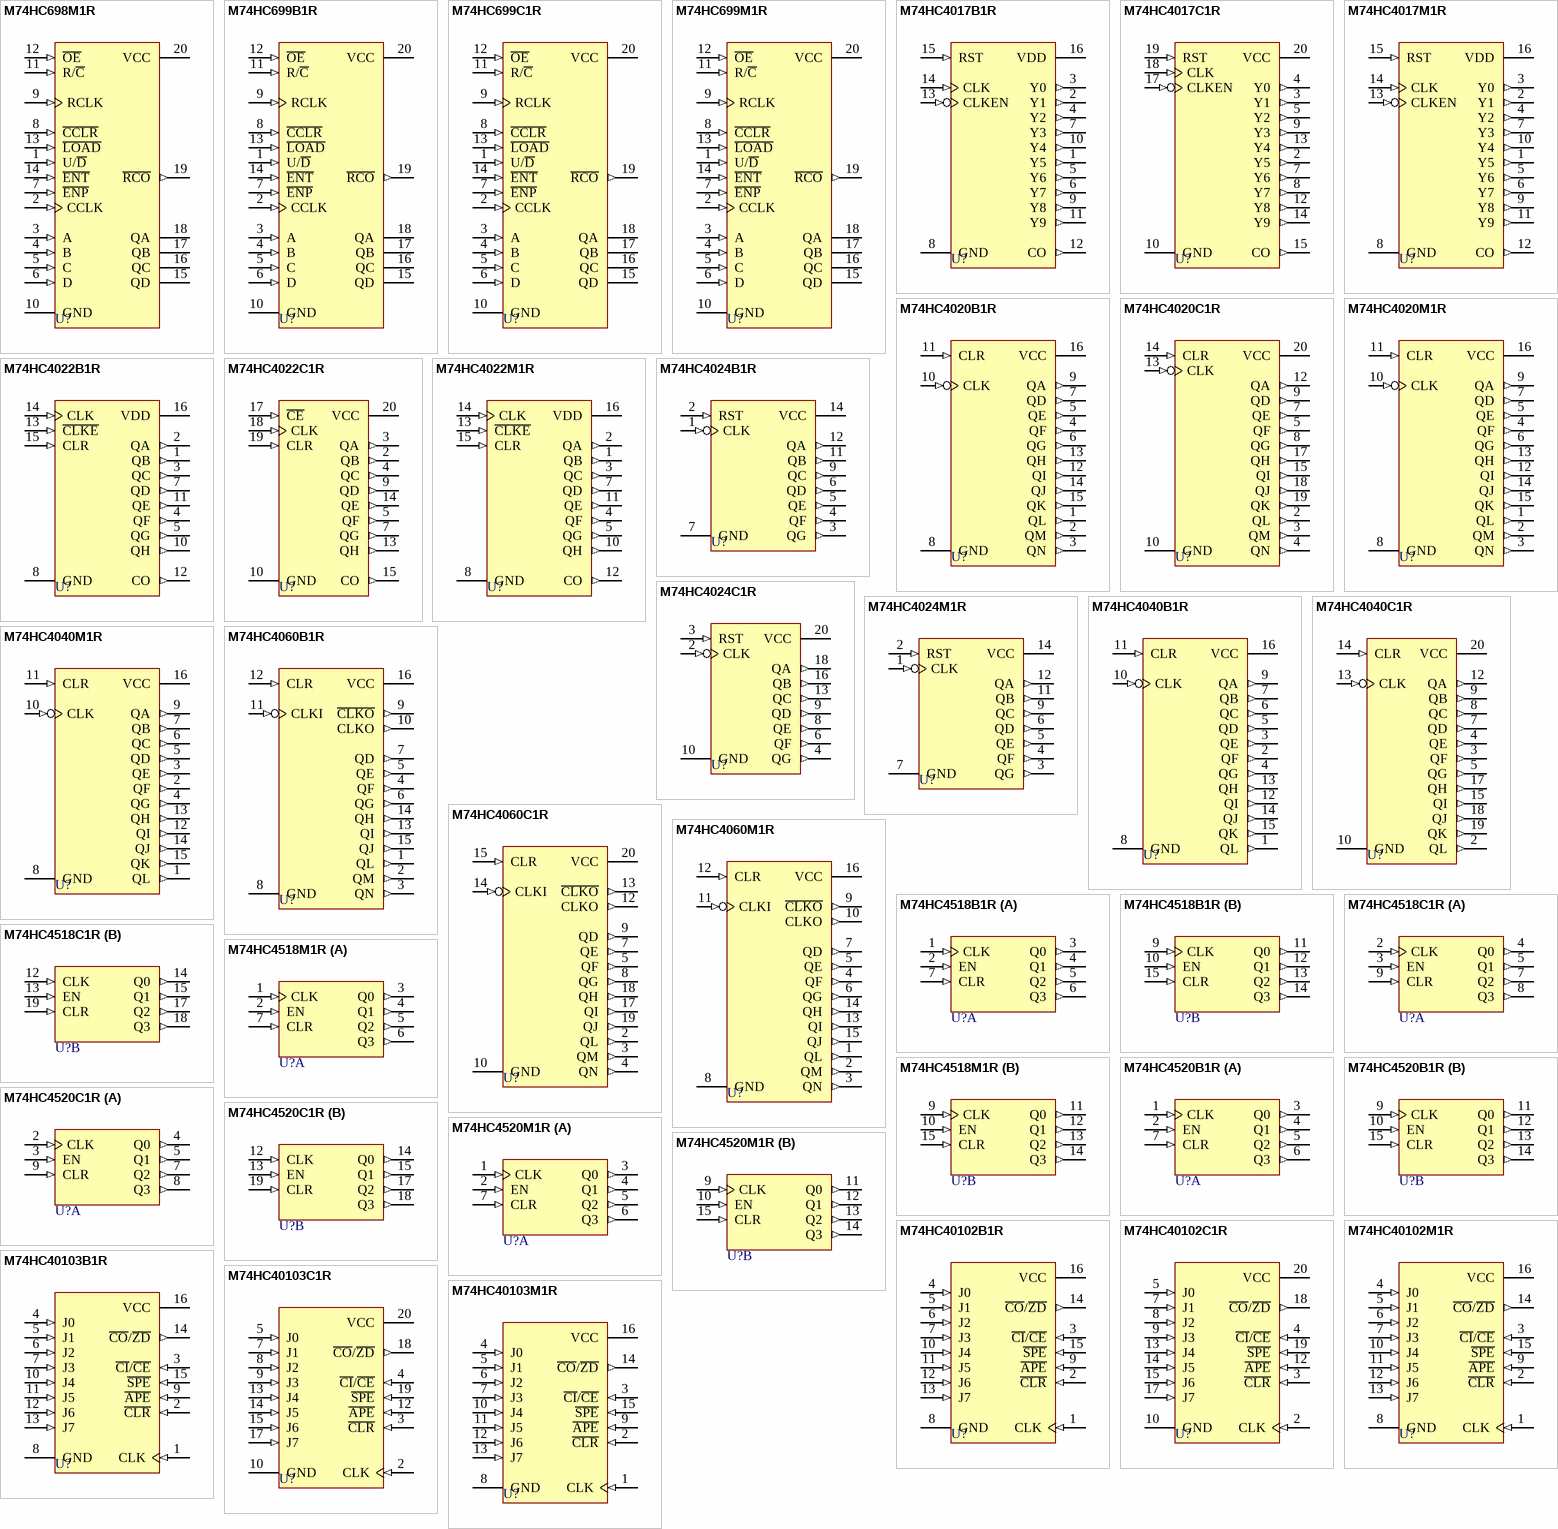
[diagram p5: symbols M74HC698M1R to M74HC40103M1R]

## M74HC698M1R
designator U?
U/D Decade Counter/Register (3-State); Published: 8-Jun-2000; LatestRevisionDate: 6-Jun-2005; LatestRevisionNote: Stylized 3D Model Added.; DatasheetDocument: Mar-1993; PackageDocument: Jul-2001; PackageReference: SO20; Publisher: Altium Limited; Code_JEDEC: MS-013-AC; Code_IPC: SO20W; ComponentLink1Description: Manufacturer Link; ComponentLink1URL: http://www.st.com/
footprint SO20 (Small Outline, Plastic; 20 Leads; Body Width 7.5 mm; Pitch 1.27 mm)
3D model SO20 (Small Outline, Plastic; 20 Leads; Body Width 7.5 mm; Pitch 1.27 mm)
signal-integrity model M74HC698M1R
pins: 1 U/~{D} (in), 2 CCLK (in), 3 A (in), 4 B (in), 5 C (in), 6 D (in), 7 ~{ENP} (in), 8 ~{CCLR} (in), 9 RCLK (in), 10 GND (power), 11 R/~{C} (in), 12 ~{OE} (in), 13 ~{LOAD} (in), 14 ~{ENT} (in), 15 QD (hiz), 16 QC (hiz), 17 QB (hiz), 18 QA (hiz), 19 ~{RCO} (out), 20 VCC (power)

## M74HC699B1R
designator U?
U/D 4-Bit Binary Counter/Register (3-State); Published: 8-Jun-2000; LatestRevisionDate: 6-Jun-2005; LatestRevisionNote: Stylized 3D Model Added.; DatasheetDocument: Mar-1993; PackageDocument: Jun-1998; PackageReference: DIP20; Publisher: Altium Limited; Code_JEDEC: MS-015-AE; ComponentLink1Description: Manufacturer Link; ComponentLink1URL: http://www.st.com/
footprint DIP20 (DIP; 20 Leads; Row Spacing 7.62 mm; Pitch 2.54 mm)
3D model DIP20 (DIP; 20 Leads; Row Spacing 7.62 mm; Pitch 2.54 mm)
signal-integrity model M74HC699B1R
pins: 1 U/~{D} (in), 2 CCLK (in), 3 A (in), 4 B (in), 5 C (in), 6 D (in), 7 ~{ENP} (in), 8 ~{CCLR} (in), 9 RCLK (in), 10 GND (power), 11 R/~{C} (in), 12 ~{OE} (in), 13 ~{LOAD} (in), 14 ~{ENT} (in), 15 QD (hiz), 16 QC (hiz), 17 QB (hiz), 18 QA (hiz), 19 ~{RCO} (out), 20 VCC (power)

## M74HC699C1R
designator U?
U/D 4-Bit Binary Counter/Register (3-State); Published: 8-Jun-2000; LatestRevisionDate: 6-Jun-2005; LatestRevisionNote: Stylized 3D Model Added.; DatasheetDocument: Mar-1993; PackageDocument: Mar-1992; PackageReference: PLCC20; Publisher: Altium Limited; ComponentLink1Description: Manufacturer Link; ComponentLink1URL: http://www.st.com/
footprint PLCC20 (Leaded Chip Carrier; 20 Leads; Body 9 x 9 mm)
3D model M74HC699-PLCC20 (Leaded Chip Carrier; 20 Leads; Body 9 x 9 mm)
signal-integrity model M74HC699C1R
pins: 1 U/~{D} (in), 2 CCLK (in), 3 A (in), 4 B (in), 5 C (in), 6 D (in), 7 ~{ENP} (in), 8 ~{CCLR} (in), 9 RCLK (in), 10 GND (power), 11 R/~{C} (in), 12 ~{OE} (in), 13 ~{LOAD} (in), 14 ~{ENT} (in), 15 QD (hiz), 16 QC (hiz), 17 QB (hiz), 18 QA (hiz), 19 ~{RCO} (out), 20 VCC (power)

## M74HC699M1R
designator U?
U/D 4-Bit Binary Counter/Register (3-State); Published: 8-Jun-2000; LatestRevisionDate: 6-Jun-2005; LatestRevisionNote: Stylized 3D Model Added.; DatasheetDocument: Mar-1993; PackageDocument: Jul-2001; PackageReference: SO20; Publisher: Altium Limited; Code_JEDEC: MS-013-AC; Code_IPC: SO20W; ComponentLink1Description: Manufacturer Link; ComponentLink1URL: http://www.st.com/
footprint SO20 (Small Outline, Plastic; 20 Leads; Body Width 7.5 mm; Pitch 1.27 mm)
3D model SO20 (Small Outline, Plastic; 20 Leads; Body Width 7.5 mm; Pitch 1.27 mm)
signal-integrity model M74HC699M1R
pins: 1 U/~{D} (in), 2 CCLK (in), 3 A (in), 4 B (in), 5 C (in), 6 D (in), 7 ~{ENP} (in), 8 ~{CCLR} (in), 9 RCLK (in), 10 GND (power), 11 R/~{C} (in), 12 ~{OE} (in), 13 ~{LOAD} (in), 14 ~{ENT} (in), 15 QD (hiz), 16 QC (hiz), 17 QB (hiz), 18 QA (hiz), 19 ~{RCO} (out), 20 VCC (power)

## M74HC4017B1R
designator U?
Decade Counter/Divider; Published: 8-Jun-2000; LatestRevisionDate: 6-Jun-2005; LatestRevisionNote: Stylized 3D Model Added.; DatasheetDocument: Oct-1992; PackageDocument: Apr-1996; PackageReference: DIP16; Publisher: Altium Limited; ComponentLink1Description: Manufacturer Link; ComponentLink1URL: http://www.st.com/; ComponentLink2Description: Datasheet; ComponentLink2URL: http://www.st.com/stonline/products/literature/ds/1960/m74hc4017.pdf
footprint DIP16 (DIP; 16 Leads; Row Spacing 7.62 mm; Pitch 2.54 mm)
3D model DIP16 (DIP; 16 Leads; Row Spacing 7.62 mm; Pitch 2.54 mm)
signal-integrity model M74HC4017B1R
pins: 1 Y5 (out), 2 Y1 (out), 3 Y0 (out), 4 Y2 (out), 5 Y6 (out), 6 Y7 (out), 7 Y3 (out), 8 GND (power), 9 Y8 (out), 10 Y4 (out), 11 Y9 (out), 12 CO (out), 13 CLKEN (in), 14 CLK (in), 15 RST (in), 16 VDD (power)

## M74HC4017C1R
designator U?
Decade Counter/Divider; Note: Pins 1, 6, 11 and 16 are not connected and not drawn.; Published: 8-Jun-2000; LatestRevisionDate: 6-Jun-2005; LatestRevisionNote: Stylized 3D Model Added.; DatasheetDocument: Oct-1992; PackageDocument: Mar-1992; PackageReference: PLCC20; Publisher: Altium Limited; ComponentLink1Description: Manufacturer Link; ComponentLink1URL: http://www.st.com/
footprint PLCC20 (Leaded Chip Carrier; 20 Leads; Body 9 x 9 mm)
3D model M74HC4017-PLCC20 (Leaded Chip Carrier; 20 Leads; Body 9 x 9 mm)
signal-integrity model M74HC4017C1R
pins: 2 Y5 (out), 3 Y1 (out), 4 Y0 (out), 5 Y2 (out), 7 Y6 (out), 8 Y7 (out), 9 Y3 (out), 10 GND (power), 12 Y8 (out), 13 Y4 (out), 14 Y9 (out), 15 CO (out), 17 CLKEN (in), 18 CLK (in), 19 RST (in), 20 VCC (power)

## M74HC4017M1R
designator U?
Decade Counter/Divider; Published: 8-Jun-2000; LatestRevisionDate: 6-Jun-2005; LatestRevisionNote: Stylized 3D Model Added.; DatasheetDocument: Oct-1992; PackageDocument: May-1998; PackageReference: SO16; Publisher: Altium Limited; ComponentLink1Description: Manufacturer Link; ComponentLink1URL: http://www.st.com/; ComponentLink2Description: Datasheet; ComponentLink2URL: http://www.st.com/stonline/products/literature/ds/1960/m74hc4017.pdf
footprint SO16 (Small Outline; 16 Leads; Body Width 3.9 mm; Pitch 1.27 mm)
3D model SO16 (Small Outline; 16 Leads; Body Width 3.9 mm; Pitch 1.27 mm)
signal-integrity model M74HC4017M1R
pins: 1 Y5 (out), 2 Y1 (out), 3 Y0 (out), 4 Y2 (out), 5 Y6 (out), 6 Y7 (out), 7 Y3 (out), 8 GND (power), 9 Y8 (out), 10 Y4 (out), 11 Y9 (out), 12 CO (out), 13 CLKEN (in), 14 CLK (in), 15 RST (in), 16 VDD (power)

## M74HC4020B1R
designator U?
14-Stage Binary Counter; Published: 8-Jun-2000; LatestRevisionDate: 6-Jun-2005; LatestRevisionNote: Stylized 3D Model Added.; DatasheetDocument: Mar-1993; PackageDocument: Apr-1996; PackageReference: DIP16; Publisher: Altium Limited; ComponentLink1Description: Manufacturer Link; ComponentLink1URL: http://www.st.com/; ComponentLink2Description: Datasheet; ComponentLink2URL: http://www.st.com/stonline/products/literature/ds/1961/m74hc4020.pdf
footprint DIP16 (DIP; 16 Leads; Row Spacing 7.62 mm; Pitch 2.54 mm)
3D model DIP16 (DIP; 16 Leads; Row Spacing 7.62 mm; Pitch 2.54 mm)
signal-integrity model M74HC4020B1R
pins: 1 QL (out), 2 QM (out), 3 QN (out), 4 QF (out), 5 QE (out), 6 QG (out), 7 QD (out), 8 GND (power), 9 QA (out), 10 CLK (in), 11 CLR (in), 12 QI (out), 13 QH (out), 14 QJ (out), 15 QK (out), 16 VCC (power)

## M74HC4020C1R
designator U?
14-Stage Binary Counter; Note: Pins 1, 6, 11 and 16 are not connected and not drawn.; Published: 8-Jun-2000; LatestRevisionDate: 6-Jun-2005; LatestRevisionNote: Stylized 3D Model Added.; DatasheetDocument: Mar-1993; PackageDocument: Mar-1992; PackageReference: PLCC20; Publisher: Altium Limited; ComponentLink1Description: Manufacturer Link; ComponentLink1URL: http://www.st.com/
footprint PLCC20 (Leaded Chip Carrier; 20 Leads; Body 9 x 9 mm)
3D model M74HC4020-PLCC20 (Leaded Chip Carrier; 20 Leads; Body 9 x 9 mm)
signal-integrity model M74HC4020C1R
pins: 2 QL (out), 3 QM (out), 4 QN (out), 5 QF (out), 7 QE (out), 8 QG (out), 9 QD (out), 10 GND (power), 12 QA (out), 13 CLK (in), 14 CLR (in), 15 QI (out), 17 QH (out), 18 QJ (out), 19 QK (out), 20 VCC (power)

## M74HC4020M1R
designator U?
14-Stage Binary Counter; Published: 8-Jun-2000; LatestRevisionDate: 6-Jun-2005; LatestRevisionNote: Stylized 3D Model Added.; DatasheetDocument: Mar-1993; PackageDocument: May-1998; PackageReference: SO16; Publisher: Altium Limited; ComponentLink1Description: Manufacturer Link; ComponentLink1URL: http://www.st.com/; ComponentLink2Description: Datasheet; ComponentLink2URL: http://www.st.com/stonline/products/literature/ds/1961/m74hc4020.pdf
footprint SO16 (Small Outline; 16 Leads; Body Width 3.9 mm; Pitch 1.27 mm)
3D model SO16 (Small Outline; 16 Leads; Body Width 3.9 mm; Pitch 1.27 mm)
signal-integrity model M74HC4020M1R
pins: 1 QL (out), 2 QM (out), 3 QN (out), 4 QF (out), 5 QE (out), 6 QG (out), 7 QD (out), 8 GND (power), 9 QA (out), 10 CLK (in), 11 CLR (in), 12 QI (out), 13 QH (out), 14 QJ (out), 15 QK (out), 16 VCC (power)

## M74HC4022B1R
designator U?
Octal Counter/Divider; Note: Pins 6 and 9 are not connected and not drawn.; Published: 8-Jun-2000; LatestRevisionDate: 6-Jun-2005; LatestRevisionNote: Stylized 3D Model Added.; DatasheetDocument: Oct-1992; PackageDocument: Apr-1996; PackageReference: DIP16; Publisher: Altium Limited; ComponentLink1Description: Manufacturer Link; ComponentLink1URL: http://www.st.com/
footprint DIP16 (DIP; 16 Leads; Row Spacing 7.62 mm; Pitch 2.54 mm)
3D model DIP16 (DIP; 16 Leads; Row Spacing 7.62 mm; Pitch 2.54 mm)
signal-integrity model M74HC4022B1R
pins: 1 QB (out), 2 QA (out), 3 QC (out), 4 QF (out), 5 QG (out), 7 QD (out), 8 GND (power), 10 QH (out), 11 QE (out), 12 CO (out), 13 ~{CLKE} (in), 14 CLK (in), 15 CLR (in), 16 VDD (power)

## M74HC4022C1R
designator U?
Octal Counter/Divider; Note: Pins 1, 6, 8, 11, 12 and 16 are not connected and not drawn.; Published: 8-Jun-2000; LatestRevisionDate: 6-Jun-2005; LatestRevisionNote: Stylized 3D Model Added.; DatasheetDocument: Oct-1992; PackageDocument: Mar-1992; PackageReference: PLCC20; Publisher: Altium Limited; ComponentLink1Description: Manufacturer Link; ComponentLink1URL: http://www.st.com/
footprint PLCC20 (Leaded Chip Carrier; 20 Leads; Body 9 x 9 mm)
3D model M74HC4022-PLCC20 (Leaded Chip Carrier; 20 Leads; Body 9 x 9 mm)
signal-integrity model M74HC4022C1R
pins: 2 QB (out), 3 QA (out), 4 QC (out), 5 QF (out), 7 QG (out), 9 QD (out), 10 GND (power), 13 QH (out), 14 QE (out), 15 CO (out), 17 ~{CE} (in), 18 CLK (in), 19 CLR (in), 20 VCC (power)

## M74HC4022M1R
designator U?
Octal Counter/Divider; Note: Pins 6 and 9 are not connected and not drawn.; Published: 8-Jun-2000; LatestRevisionDate: 6-Jun-2005; LatestRevisionNote: Stylized 3D Model Added.; DatasheetDocument: Oct-1992; PackageDocument: May-1998; PackageReference: SO16; Publisher: Altium Limited; ComponentLink1Description: Manufacturer Link; ComponentLink1URL: http://www.st.com/
footprint SO16 (Small Outline; 16 Leads; Body Width 3.9 mm; Pitch 1.27 mm)
3D model SO16 (Small Outline; 16 Leads; Body Width 3.9 mm; Pitch 1.27 mm)
signal-integrity model M74HC4022M1R
pins: 1 QB (out), 2 QA (out), 3 QC (out), 4 QF (out), 5 QG (out), 7 QD (out), 8 GND (power), 10 QH (out), 11 QE (out), 12 CO (out), 13 ~{CLKE} (in), 14 CLK (in), 15 CLR (in), 16 VDD (power)

## M74HC4024B1R
designator U?
7-Stage Binary Counter; Note: Pins 8, 10 and 13 are not connected and not drawn.; Published: 8-Jun-2000; LatestRevisionDate: 6-Jun-2005; LatestRevisionNote: Stylized 3D Model Added.; DatasheetDocument: Oct-1992; PackageDocument: Jan-1997; PackageReference: DIP14; Publisher: Altium Limited; ComponentLink1Description: Manufacturer Link; ComponentLink1URL: http://www.st.com/; ComponentLink2Description: Datasheet; ComponentLink2URL: http://www.st.com/stonline/products/literature/ds/1963/m74hc4024.pdf
footprint DIP14 (DIP; 14 Leads; Row Spacing 7.62 mm; Pitch 2.54 mm)
3D model DIP14 (DIP; 14 Leads; Row Spacing 7.62 mm; Pitch 2.54 mm)
signal-integrity model M74HC4024B1R
pins: 1 CLK (in), 2 RST (in), 3 QG (out), 4 QF (out), 5 QE (out), 6 QD (out), 7 GND (power), 9 QC (out), 11 QB (out), 12 QA (out), 14 VCC (power)

## M74HC4024C1R
designator U?
7-Stage Binary Counter; Note: Pins 1, 5, 7, 11, 12, 14, 15, 17 and 19 are not connected and not drawn.; Published: 8-Jun-2000; LatestRevisionDate: 6-Jun-2005; LatestRevisionNote: Stylized 3D Model Added.; DatasheetDocument: Oct-1992; PackageDocument: Mar-1992; PackageReference: PLCC20; Publisher: Altium Limited; ComponentLink1Description: Manufacturer Link; ComponentLink1URL: http://www.st.com/
footprint PLCC20 (Leaded Chip Carrier; 20 Leads; Body 9 x 9 mm)
3D model M74HC4024-PLCC20 (Leaded Chip Carrier; 20 Leads; Body 9 x 9 mm)
signal-integrity model M74HC4024C1R
pins: 2 CLK (in), 3 RST (in), 4 QG (out), 6 QF (out), 8 QE (out), 9 QD (out), 10 GND (power), 13 QC (out), 16 QB (out), 18 QA (out), 20 VCC (power)

## M74HC4024M1R
designator U?
7-Stage Binary Counter; Note: Pins 8, 10 and 13 are not connected and not drawn.; Published: 8-Jun-2000; LatestRevisionDate: 6-Jun-2005; LatestRevisionNote: Stylized 3D Model Added.; DatasheetDocument: Oct-1992; PackageDocument: Sep-1998; PackageReference: SO14; Publisher: Altium Limited; ComponentLink1Description: Manufacturer Link; ComponentLink1URL: http://www.st.com/; ComponentLink2Description: Datasheet; ComponentLink2URL: http://www.st.com/stonline/products/literature/ds/1963/m74hc4024.pdf
footprint SO14 (Small Outline; 14 Leads; Body Width 3.9 mm; Pitch 1.27 mm)
3D model SO14 (Small Outline; 14 Leads; Body Width 3.9 mm; Pitch 1.27 mm)
signal-integrity model M74HC4024M1R
pins: 1 CLK (in), 2 RST (in), 3 QG (out), 4 QF (out), 5 QE (out), 6 QD (out), 7 GND (power), 9 QC (out), 11 QB (out), 12 QA (out), 14 VCC (power)

## M74HC4040B1R
designator U?
12-Stage Binary Counter; Published: 8-Jun-2000; LatestRevisionDate: 6-Jun-2005; LatestRevisionNote: Stylized 3D Model Added.; DatasheetDocument: Mar-1993; PackageDocument: Apr-1996; PackageReference: DIP16; Publisher: Altium Limited; ComponentLink1Description: Manufacturer Link; ComponentLink1URL: http://www.st.com/; ComponentLink2Description: Datasheet; ComponentLink2URL: http://www.st.com/stonline/products/literature/ds/8022/m74hc4040.pdf
footprint DIP16 (DIP; 16 Leads; Row Spacing 7.62 mm; Pitch 2.54 mm)
3D model DIP16 (DIP; 16 Leads; Row Spacing 7.62 mm; Pitch 2.54 mm)
signal-integrity model M74HC4040B1R
pins: 1 QL (out), 2 QF (out), 3 QE (out), 4 QG (out), 5 QD (out), 6 QC (out), 7 QB (out), 8 GND (power), 9 QA (out), 10 CLK (in), 11 CLR (in), 12 QI (out), 13 QH (out), 14 QJ (out), 15 QK (out), 16 VCC (power)

## M74HC4040C1R
designator U?
12-Stage Binary Counter; Note: Pins 1, 6, 11 and 16 are not connected and not drawn.; Published: 8-Jun-2000; LatestRevisionDate: 6-Jun-2005; LatestRevisionNote: Stylized 3D Model Added.; DatasheetDocument: Mar-1993; PackageDocument: Mar-1992; PackageReference: PLCC20; Publisher: Altium Limited; ComponentLink1Description: Manufacturer Link; ComponentLink1URL: http://www.st.com/
footprint PLCC20 (Leaded Chip Carrier; 20 Leads; Body 9 x 9 mm)
3D model M74HC4040-PLCC20 (Leaded Chip Carrier; 20 Leads; Body 9 x 9 mm)
signal-integrity model M74HC4040C1R
pins: 2 QL (out), 3 QF (out), 4 QE (out), 5 QG (out), 7 QD (out), 8 QC (out), 9 QB (out), 10 GND (power), 12 QA (out), 13 CLK (in), 14 CLR (in), 15 QI (out), 17 QH (out), 18 QJ (out), 19 QK (out), 20 VCC (power)

## M74HC4040M1R
designator U?
12-Stage Binary Counter; Published: 8-Jun-2000; LatestRevisionDate: 6-Jun-2005; LatestRevisionNote: Stylized 3D Model Added.; DatasheetDocument: Mar-1993; PackageDocument: May-1998; PackageReference: SO16; Publisher: Altium Limited; ComponentLink1Description: Manufacturer Link; ComponentLink1URL: http://www.st.com/; ComponentLink2Description: Datasheet; ComponentLink2URL: http://www.st.com/stonline/products/literature/ds/8022/m74hc4040.pdf
footprint SO16 (Small Outline; 16 Leads; Body Width 3.9 mm; Pitch 1.27 mm)
3D model SO16 (Small Outline; 16 Leads; Body Width 3.9 mm; Pitch 1.27 mm)
signal-integrity model M74HC4040M1R
pins: 1 QL (out), 2 QF (out), 3 QE (out), 4 QG (out), 5 QD (out), 6 QC (out), 7 QB (out), 8 GND (power), 9 QA (out), 10 CLK (in), 11 CLR (in), 12 QI (out), 13 QH (out), 14 QJ (out), 15 QK (out), 16 VCC (power)

## M74HC4060B1R
designator U?
14-Stage Binary Counter/Oscillator; Published: 8-Jun-2000; LatestRevisionDate: 6-Jun-2005; LatestRevisionNote: Stylized 3D Model Added.; DatasheetDocument: Mar-1993; PackageDocument: Apr-1996; PackageReference: DIP16; Publisher: Altium Limited; ComponentLink1Description: Manufacturer Link; ComponentLink1URL: http://www.st.com/; ComponentLink2Description: Datasheet; ComponentLink2URL: http://www.st.com/stonline/products/literature/ds/1967/m74hc4060.pdf
footprint DIP16 (DIP; 16 Leads; Row Spacing 7.62 mm; Pitch 2.54 mm)
3D model DIP16 (DIP; 16 Leads; Row Spacing 7.62 mm; Pitch 2.54 mm)
signal-integrity model M74HC4060B1R
pins: 1 QL (out), 2 QM (out), 3 QN (out), 4 QF (out), 5 QE (out), 6 QG (out), 7 QD (out), 8 GND (power), 9 ~{CLKO} (out), 10 CLKO (out), 11 CLKI (in), 12 CLR (in), 13 QI (out), 14 QH (out), 15 QJ (out), 16 VCC (power)

## M74HC4060C1R
designator U?
14-Stage Binary Counter/Oscillator; Note: Pins 1, 6, 11 and 16 are not connected and not drawn.; Published: 8-Jun-2000; LatestRevisionDate: 6-Jun-2005; LatestRevisionNote: Stylized 3D Model Added.; DatasheetDocument: Mar-1993; PackageDocument: Mar-1992; PackageReference: PLCC20; Publisher: Altium Limited; ComponentLink1Description: Manufacturer Link; ComponentLink1URL: http://www.st.com/
footprint PLCC20 (Leaded Chip Carrier; 20 Leads; Body 9 x 9 mm)
3D model M74HC4060-PLCC20 (Leaded Chip Carrier; 20 Leads; Body 9 x 9 mm)
signal-integrity model M74HC4060C1R
pins: 2 QL (out), 3 QM (out), 4 QN (out), 5 QF (out), 7 QE (out), 8 QG (out), 9 QD (out), 10 GND (power), 12 CLKO (out), 13 ~{CLKO} (out), 14 CLKI (in), 15 CLR (in), 17 QI (out), 18 QH (out), 19 QJ (out), 20 VCC (power)

## M74HC4060M1R
designator U?
14-Stage Binary Counter/Oscillator; Published: 8-Jun-2000; LatestRevisionDate: 6-Jun-2005; LatestRevisionNote: Stylized 3D Model Added.; DatasheetDocument: Mar-1993; PackageDocument: May-1998; PackageReference: SO16; Publisher: Altium Limited; ComponentLink1Description: Manufacturer Link; ComponentLink1URL: http://www.st.com/; ComponentLink2Description: Datasheet; ComponentLink2URL: http://www.st.com/stonline/products/literature/ds/1967/m74hc4060.pdf
footprint SO16 (Small Outline; 16 Leads; Body Width 3.9 mm; Pitch 1.27 mm)
3D model SO16 (Small Outline; 16 Leads; Body Width 3.9 mm; Pitch 1.27 mm)
signal-integrity model M74HC4060M1R
pins: 1 QL (out), 2 QM (out), 3 QN (out), 4 QF (out), 5 QE (out), 6 QG (out), 7 QD (out), 8 GND (power), 9 ~{CLKO} (out), 10 CLKO (out), 11 CLKI (in), 12 CLR (in), 13 QI (out), 14 QH (out), 15 QJ (out), 16 VCC (power)

## M74HC4518B1R
designator U?
Dual Decade Counter; Published: 8-Jun-2000; LatestRevisionDate: 6-Jun-2005; LatestRevisionNote: Stylized 3D Model Added.; DatasheetDocument: Mar-1993; PackageDocument: Apr-1996; PackageReference: DIP16; Publisher: Altium Limited; ComponentLink1Description: Manufacturer Link; ComponentLink1URL: http://www.st.com/; ComponentLink2Description: Datasheet; ComponentLink2URL: http://www.st.com/stonline/products/literature/ds/1979/m74hc4518.pdf
footprint DIP16 (DIP; 16 Leads; Row Spacing 7.62 mm; Pitch 2.54 mm)
3D model DIP16 (DIP; 16 Leads; Row Spacing 7.62 mm; Pitch 2.54 mm)
signal-integrity model M74HC4518B1R
pins on every part: 8 GND (power) hidden to GND, 16 VDD (power) hidden to VDD
part A pins: 1 CLK (in), 2 EN (in), 3 Q0 (out), 4 Q1 (out), 5 Q2 (out), 6 Q3 (out), 7 CLR (in)
part B pins: 9 CLK (in), 10 EN (in), 11 Q0 (out), 12 Q1 (out), 13 Q2 (out), 14 Q3 (out), 15 CLR (in)

## M74HC4518C1R
designator U?
Dual Decade Counter; Note: Pins 1, 6, 11 and 16 are not connected and not drawn.; Published: 8-Jun-2000; LatestRevisionDate: 6-Jun-2005; LatestRevisionNote: Stylized 3D Model Added.; DatasheetDocument: Mar-1993; PackageDocument: Mar-1992; PackageReference: PLCC20; Publisher: Altium Limited; ComponentLink1Description: Manufacturer Link; ComponentLink1URL: http://www.st.com/
footprint PLCC20 (Leaded Chip Carrier; 20 Leads; Body 9 x 9 mm)
3D model M74HC4518-PLCC20 (Leaded Chip Carrier; 20 Leads; Body 9 x 9 mm)
signal-integrity model M74HC4518C1R
pins on every part: 10 GND (power) hidden to GND, 20 VCC (power) hidden to VCC
part A pins: 2 CLK (in), 3 EN (in), 4 Q0 (out), 5 Q1 (out), 7 Q2 (out), 8 Q3 (out), 9 CLR (in)
part B pins: 12 CLK (in), 13 EN (in), 14 Q0 (out), 15 Q1 (out), 17 Q2 (out), 18 Q3 (out), 19 CLR (in)

## M74HC4518M1R
designator U?
Dual Decade Counter; Published: 8-Jun-2000; LatestRevisionDate: 6-Jun-2005; LatestRevisionNote: Stylized 3D Model Added.; DatasheetDocument: Mar-1993; PackageDocument: May-1998; PackageReference: SO16; Publisher: Altium Limited; ComponentLink1Description: Manufacturer Link; ComponentLink1URL: http://www.st.com/; ComponentLink2Description: Datasheet; ComponentLink2URL: http://www.st.com/stonline/products/literature/ds/1979/m74hc4518.pdf
footprint SO16 (Small Outline; 16 Leads; Body Width 3.9 mm; Pitch 1.27 mm)
3D model SO16 (Small Outline; 16 Leads; Body Width 3.9 mm; Pitch 1.27 mm)
signal-integrity model M74HC4518M1R
pins on every part: 8 GND (power) hidden to GND, 16 VDD (power) hidden to VDD
part A pins: 1 CLK (in), 2 EN (in), 3 Q0 (out), 4 Q1 (out), 5 Q2 (out), 6 Q3 (out), 7 CLR (in)
part B pins: 9 CLK (in), 10 EN (in), 11 Q0 (out), 12 Q1 (out), 13 Q2 (out), 14 Q3 (out), 15 CLR (in)